# EAGLE library part STEREO-RCA-JACKS (library matlock-connectors)
Switchcraft PJRAN2X1U02X, PJRAN2X1U02AUX
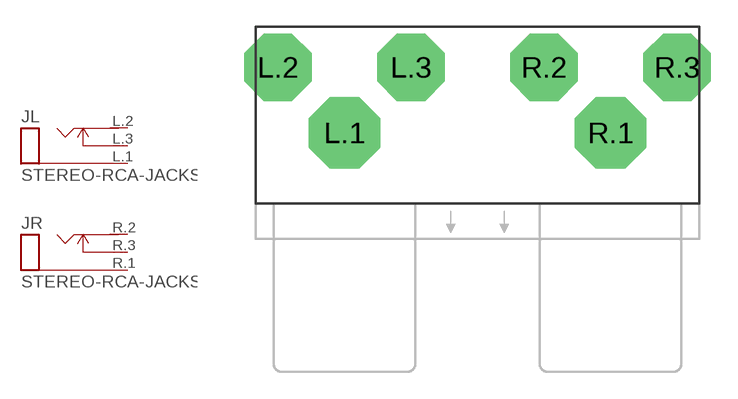
[diagram p1: symbol with the pads of DUAL-RCA-PHONO; footprint DUAL-RCA-PHONO]

Designator prefix J; gates L=TS-SWITCHED R=TS-SWITCHED

## STEREO-RCA-JACKS-PJRAN2X1U02(AU)X  [DUAL-RCA-PHONO]
L.1  L:S  pas
L.2  L:T  pas
L.3  L:TS  pas
R.1  R:S  pas
R.2  R:T  pas
R.3  R:TS  pas

## Footprint DUAL-RCA-PHONO (pad centres in mm)
Switchcraft PJRAN2X1U02AUX, PJRAN2X1U02AU, PJRAN2X1U02X; (L and R are reversed for PJRAN2X1U01AUX)
drill 3 octagon: L.1 -7.5,-0.35; R.1 7.5,-0.35
drill 2.8 octagon: L.2 -11.25,3.35; L.3 -3.75,3.35; R.2 3.75,3.35; R.3 11.25,3.35